# EAGLE library part DRV8824 (library 0SBLib)
STEPPER MOTOR CONTROLLER IC
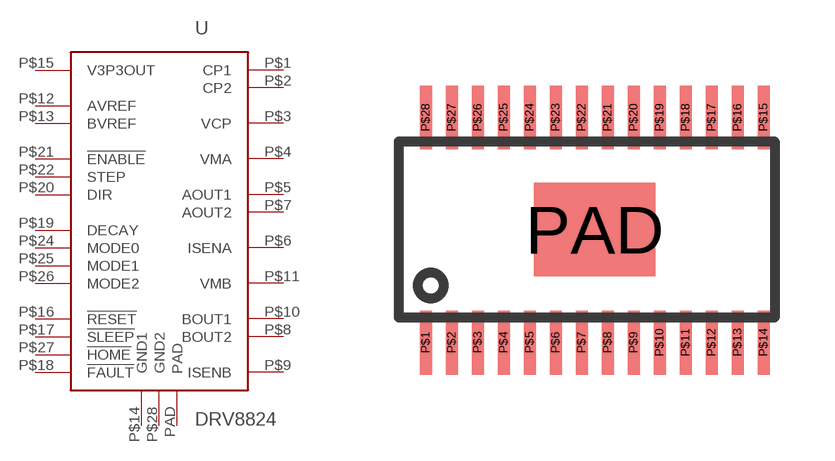
[diagram p33: symbol with the pads of TSSOP-28-PAD; footprint TSSOP-28-PAD]

Designator prefix -

## DRV8824_TSSOP28  [TSSOP-28-PAD]
P$1  CP1
P$2  CP2
P$3  VCP
P$4  VMA
P$5  AOUT1
P$6  ISENA
P$7  AOUT2
P$8  BOUT2
P$9  ISENB
P$10  BOUT1
P$11  VMB
P$12  AVREF
P$13  BVREF
P$14  GND1
P$15  V3P3OUT
P$16  !RESET
P$17  !SLEEP
P$18  !FAULT
P$19  DECAY
P$20  DIR
P$21  !ENABLE
P$22  STEP
P$24  MODE0
P$25  MODE1
P$26  MODE2
P$27  !HOME
P$28  GND2
PAD  PAD

## Footprint TSSOP-28-PAD (pad centres in mm)
smd 0.3 x 1.6: P$1 -4.225,-2.825; P$2 -3.575,-2.825; P$3 -2.925,-2.825; P$4 -2.275,-2.825; P$5 -1.625,-2.825; P$6 -0.975,-2.825; P$7 -0.325,-2.825; P$8 0.325,-2.825; P$9 0.975,-2.825; P$10 1.625,-2.825; P$11 2.275,-2.825; P$12 2.925,-2.825; P$13 3.575,-2.825; P$14 4.225,-2.825; P$15 4.225,2.8; P$16 3.575,2.8; P$17 2.925,2.8; P$18 2.275,2.8; P$19 1.625,2.8; P$20 0.975,2.8; P$21 0.325,2.8; P$22 -0.325,2.8; P$23 -0.975,2.8; P$24 -1.625,2.8; P$25 -2.275,2.8; P$26 -2.925,2.8; P$27 -3.575,2.8; P$28 -4.225,2.8
smd 3.04 x 2.34: PAD 0,0